# EAGLE library part EDGE-TOP (library dec-con)
Labeled DEC edge connector, suitable for top connector.
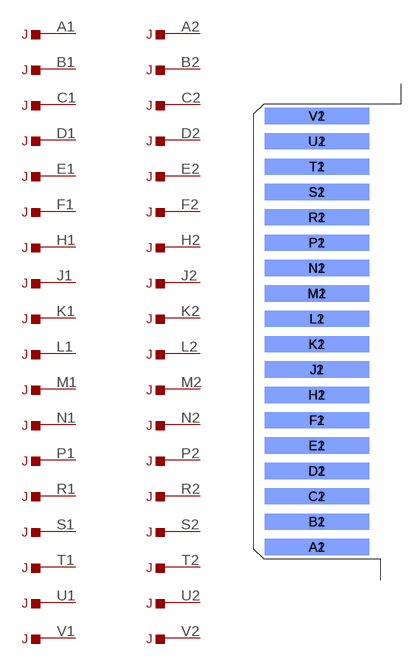
[diagram p100: symbol with the pads of EDGE-CON2; footprint EDGE-CON2]

Designator prefix J; gates A1=PIN B1=PIN C1=PIN D1=PIN E1=PIN F1=PIN H1=PIN J1=PIN K1=PIN L1=PIN M1=PIN N1=PIN P1=PIN R1=PIN S1=PIN T1=PIN U1=PIN V1=PIN A2=PIN B2=PIN C2=PIN D2=PIN E2=PIN F2=PIN H2=PIN J2=PIN K2=PIN L2=PIN M2=PIN N2=PIN P2=PIN R2=PIN S2=PIN T2=PIN U2=PIN V2=PIN

## EDGE-TOP  [EDGE-CON2]
A1  A1:P  pas
A2  A2:P  pas
B1  B1:P  pas
B2  B2:P  pas
C1  C1:P  pas
C2  C2:P  pas
D1  D1:P  pas
D2  D2:P  pas
E1  E1:P  pas
E2  E2:P  pas
F1  F1:P  pas
F2  F2:P  pas
H1  H1:P  pas
H2  H2:P  pas
J1  J1:P  pas
J2  J2:P  pas
K1  K1:P  pas
K2  K2:P  pas
L1  L1:P  pas
L2  L2:P  pas
M1  M1:P  pas
M2  M2:P  pas
N1  N1:P  pas
N2  N2:P  pas
P1  P1:P  pas
P2  P2:P  pas
R1  R1:P  pas
R2  R2:P  pas
S1  S1:P  pas
S2  S2:P  pas
T1  T1:P  pas
T2  T2:P  pas
U1  U1:P  pas
U2  U2:P  pas
V1  V1:P  pas
V2  V2:P  pas

## Footprint EDGE-CON2 (pad centres in mm)
Single-Height DEC edge connector
smd 13.106 x 2.032: A1 7.938,4.128; B1 7.938,7.303; C1 7.938,10.477; D1 7.938,13.652; E1 7.938,16.828; F1 7.938,20.003; H1 7.938,23.177; J1 7.938,26.352; K1 7.938,29.527; L1 7.938,32.703; M1 7.938,35.877; N1 7.938,39.053; P1 7.938,42.227; R1 7.938,45.403; S1 7.938,48.578; T1 7.938,51.752; U1 7.938,54.928; V1 7.938,58.102
smd 13.106 x 2.032 bottom: A2 7.938,4.128; B2 7.938,7.303; C2 7.938,10.477; D2 7.938,13.652; E2 7.938,16.828; F2 7.938,20.003; H2 7.938,23.177; J2 7.938,26.352; K2 7.938,29.527; L2 7.938,32.703; M2 7.938,35.877; N2 7.938,39.053; P2 7.938,42.227; R2 7.938,45.403; S2 7.938,48.578; T2 7.938,51.752; U2 7.938,54.928; V2 7.938,58.102